# EAGLE library part ENCODER (library Richard2)
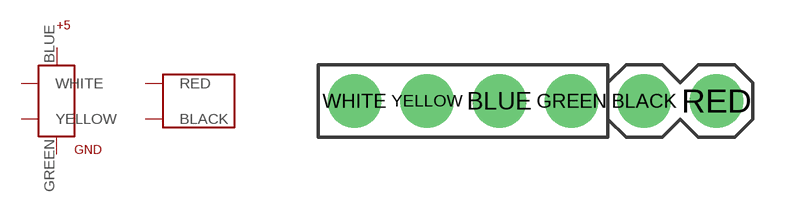
[diagram p1: symbol with the pads of ENCODERMOTOR; footprint ENCODERMOTOR]

Designator prefix -; gates G$1=ENCODER G$2=ENCODER2

## ENCODER  [ENCODERMOTOR]
BLACK  G$1:BLACK  pas
BLUE  G$2:BLUE  pas
GREEN  G$2:GREEN  pas
RED  G$1:RED  pas
WHITE  G$2:WHITE  pas
YELLOW  G$2:YELLOW  pas

## Footprint ENCODERMOTOR (pad centres in mm)
Plated Through Hole - 6 Pin No Silk Outline Specifications: Pin count:6 Pin pitch:0.1" Example device(s): CONN_06
drill 1.016 pad 1.88: BLACK 10.16,0; BLUE 5.08,0; GREEN 7.62,0; RED 12.7,0; WHITE 0,0; YELLOW 2.54,0